# Altium schematic symbol library 936.SchLib: 1 symbol
Pins are listed as number, name and electrical type; pins without a type are passive.

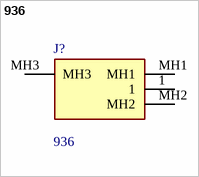
[diagram p0: symbol 936]

## 936
designator J?
RCA Phono Connectors WH Snapfit 90deg PC Gold Plate .571x.465; Manufacturer_Name: Keystone Electronics; Geometry.Height: 12.06mm; Mouser Part Number: 534-936; Mouser Price/Stock: https://www.mouser.co.uk/ProductDetail/Keystone-Electronics/936?qs=sZfk%252BfAlGe5vN1AdYHpbDA%3D%3D; Manufacturer_Part_Number: 936; Datasheet Link: https://www.keyelco.com/product-pdf.cfm?p=3142
footprint 936
pins: 1, MH1, MH2, MH3